# Altium schematic symbol library WE-TVSP.SchLib: 358 symbols (part 4 of 7)
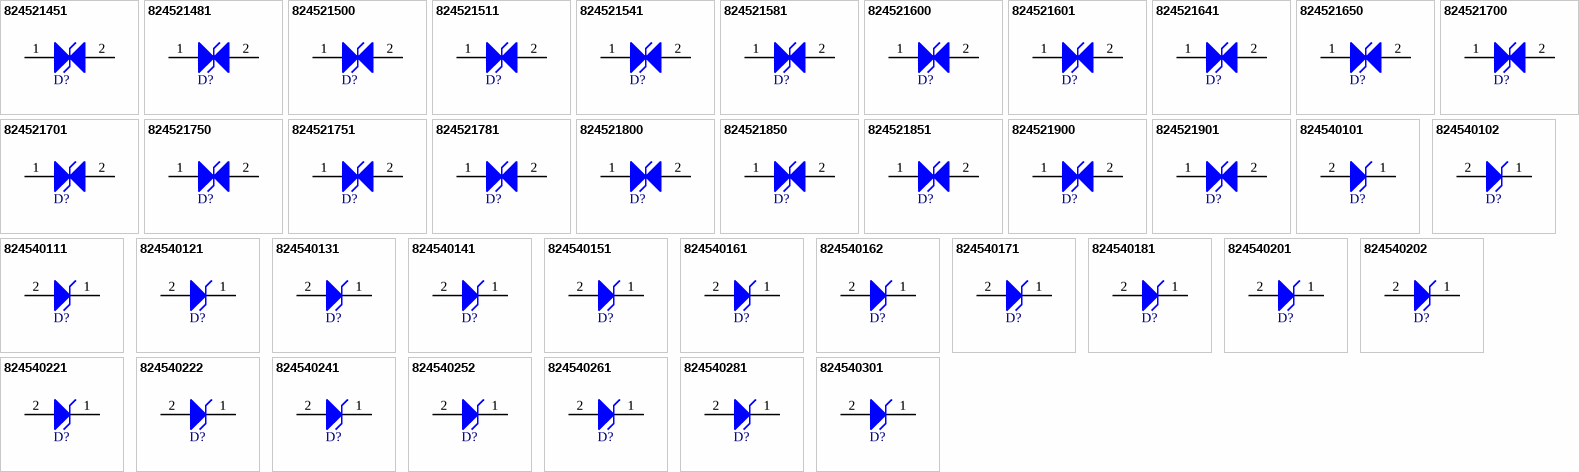
[diagram p11: symbols 824521451 to 824540301]

## 824521541
designator D?, comment 600W, 54VDC  (value not drawn)
WE-TVSP SMT Power TVS Diode, DO-214AA, Bidirectional, 600W, 54VDC; Manufacturer Part Number: 824521541; Manufacturer: Wurth Elektronik; Clamping Voltage: 87.1V; Operating Voltage (DC): 54V; (Reverse) Breakdown Voltage: 63.15V; (Reverse) Peak Pulse Current: 6.9A; ComponentLink1Description: Website Link; ComponentLink1URL: https://www.we-online.com/redexpert/article/824521541?ad; ComponentLink2Description: Datasheet Link; ComponentLink2URL: https://www.we-online.com/redexpert/spec/824521541?ad; Category: Surge Protection; Match Code: WE-TVSP; Mount: Surface Mount; Operating Temperature Max: 150°C; Operating Temperature Min: -65°C; Packaging: Tape and Reel; Case/Size Code: DO-214AA; Length: 4.32mm; Width: 3.62mm; Height: 2.4mm; Polarity: Bidirectional; Power Dissipation: 600W
footprint WE-TVSP_DO-214AA_Bidirectional
pins: 1, 2

## 824521581
designator D?, comment 600W, 58VDC  (value not drawn)
WE-TVSP SMT Power TVS Diode, DO-214AA, Bidirectional, 600W, 58VDC; Manufacturer Part Number: 824521581; Manufacturer: Wurth Elektronik; Clamping Voltage: 93.6V; Operating Voltage (DC): 58V; (Reverse) Breakdown Voltage: 67.8V; (Reverse) Peak Pulse Current: 6.5A; ComponentLink1Description: Website Link; ComponentLink1URL: https://www.we-online.com/redexpert/article/824521581?ad; ComponentLink2Description: Datasheet Link; ComponentLink2URL: https://www.we-online.com/redexpert/spec/824521581?ad; Category: Surge Protection; Match Code: WE-TVSP; Mount: Surface Mount; Operating Temperature Max: 150°C; Operating Temperature Min: -65°C; Packaging: Tape and Reel; Case/Size Code: DO-214AA; Length: 4.32mm; Width: 3.62mm; Height: 2.4mm; Polarity: Bidirectional; Power Dissipation: 600W
footprint WE-TVSP_DO-214AA_Bidirectional
pins: 1, 2

## 824521600
designator D?, comment 600W, 6VDC  (value not drawn)
WE-TVSP SMT Power TVS Diode, DO-214AA, Bidirectional, 600W, 6VDC; Manufacturer Part Number: 824521600; Manufacturer: Wurth Elektronik; Clamping Voltage: 10.3V; Operating Voltage (DC): 6V; (Reverse) Breakdown Voltage: 7.02V; (Reverse) Peak Pulse Current: 58.3A; ComponentLink1Description: Website Link; ComponentLink1URL: https://www.we-online.com/redexpert/article/824521600?ad; ComponentLink2Description: Datasheet Link; ComponentLink2URL: https://www.we-online.com/redexpert/spec/824521600?ad; Category: Surge Protection; Match Code: WE-TVSP; Mount: Surface Mount; Operating Temperature Max: 150°C; Operating Temperature Min: -65°C; Packaging: Tape and Reel; Case/Size Code: DO-214AA; Length: 4.32mm; Width: 3.62mm; Height: 2.4mm; Polarity: Bidirectional; Power Dissipation: 600W
footprint WE-TVSP_DO-214AA_Bidirectional
pins: 1, 2

## 824521601
designator D?, comment 600W, 60VDC  (value not drawn)
WE-TVSP SMT Power TVS Diode, DO-214AA, Bidirectional, 600W, 60VDC; Manufacturer Part Number: 824521601; Manufacturer: Wurth Elektronik; Clamping Voltage: 96.8V; Operating Voltage (DC): 60V; (Reverse) Breakdown Voltage: 70.2V; (Reverse) Peak Pulse Current: 6.2A; ComponentLink1Description: Website Link; ComponentLink1URL: https://www.we-online.com/redexpert/article/824521601?ad; ComponentLink2Description: Datasheet Link; ComponentLink2URL: https://www.we-online.com/redexpert/spec/824521601?ad; Category: Surge Protection; Match Code: WE-TVSP; Mount: Surface Mount; Operating Temperature Max: 150°C; Operating Temperature Min: -65°C; Packaging: Tape and Reel; Case/Size Code: DO-214AA; Length: 4.32mm; Width: 3.62mm; Height: 2.4mm; Polarity: Bidirectional; Power Dissipation: 600W
footprint WE-TVSP_DO-214AA_Bidirectional
pins: 1, 2

## 824521641
designator D?, comment 600W, 64VDC  (value not drawn)
WE-TVSP SMT Power TVS Diode, DO-214AA, Bidirectional, 600W, 64VDC; Manufacturer Part Number: 824521641; Manufacturer: Wurth Elektronik; Clamping Voltage: 103V; Operating Voltage (DC): 64V; (Reverse) Breakdown Voltage: 74.85V; (Reverse) Peak Pulse Current: 5.9A; ComponentLink1Description: Website Link; ComponentLink1URL: https://www.we-online.com/redexpert/article/824521641?ad; ComponentLink2Description: Datasheet Link; ComponentLink2URL: https://www.we-online.com/redexpert/spec/824521641?ad; Category: Surge Protection; Match Code: WE-TVSP; Mount: Surface Mount; Operating Temperature Max: 150°C; Operating Temperature Min: -65°C; Packaging: Tape and Reel; Case/Size Code: DO-214AA; Length: 4.32mm; Width: 3.62mm; Height: 2.4mm; Polarity: Bidirectional; Power Dissipation: 600W
footprint WE-TVSP_DO-214AA_Bidirectional
pins: 1, 2

## 824521650
designator D?, comment 600W, 6.5VDC  (value not drawn)
WE-TVSP SMT Power TVS Diode, DO-214AA, Bidirectional, 600W, 6.5VDC; Manufacturer Part Number: 824521650; Manufacturer: Wurth Elektronik; Clamping Voltage: 11.2V; Operating Voltage (DC): 6.5V; (Reverse) Breakdown Voltage: 7.6V; (Reverse) Peak Pulse Current: 53.6A; ComponentLink1Description: Website Link; ComponentLink1URL: https://www.we-online.com/redexpert/article/824521650?ad; ComponentLink2Description: Datasheet Link; ComponentLink2URL: https://www.we-online.com/redexpert/spec/824521650?ad; Category: Surge Protection; Match Code: WE-TVSP; Mount: Surface Mount; Operating Temperature Max: 150°C; Operating Temperature Min: -65°C; Packaging: Tape and Reel; Case/Size Code: DO-214AA; Length: 4.32mm; Width: 3.62mm; Height: 2.4mm; Polarity: Bidirectional; Power Dissipation: 600W
footprint WE-TVSP_DO-214AA_Bidirectional
pins: 1, 2

## 824521700
designator D?, comment 600W, 7VDC  (value not drawn)
WE-TVSP SMT Power TVS Diode, DO-214AA, Bidirectional, 600W, 7VDC; Manufacturer Part Number: 824521700; Manufacturer: Wurth Elektronik; Clamping Voltage: 12V; Operating Voltage (DC): 7V; (Reverse) Breakdown Voltage: 8.19V; (Reverse) Peak Pulse Current: 50A; ComponentLink1Description: Website Link; ComponentLink1URL: https://www.we-online.com/redexpert/article/824521700?ad; ComponentLink2Description: Datasheet Link; ComponentLink2URL: https://www.we-online.com/redexpert/spec/824521700?ad; Category: Surge Protection; Match Code: WE-TVSP; Mount: Surface Mount; Operating Temperature Max: 150°C; Operating Temperature Min: -65°C; Packaging: Tape and Reel; Case/Size Code: DO-214AA; Length: 4.32mm; Width: 3.62mm; Height: 2.4mm; Polarity: Bidirectional; Power Dissipation: 600W
footprint WE-TVSP_DO-214AA_Bidirectional
pins: 1, 2

## 824521701
designator D?, comment 600W, 70VDC  (value not drawn)
WE-TVSP SMT Power TVS Diode, DO-214AA, Bidirectional, 600W, 70VDC; Manufacturer Part Number: 824521701; Manufacturer: Wurth Elektronik; Clamping Voltage: 113V; Operating Voltage (DC): 70V; (Reverse) Breakdown Voltage: 81.9V; (Reverse) Peak Pulse Current: 5.3A; ComponentLink1Description: Website Link; ComponentLink1URL: https://www.we-online.com/redexpert/article/824521701?ad; ComponentLink2Description: Datasheet Link; ComponentLink2URL: https://www.we-online.com/redexpert/spec/824521701?ad; Category: Surge Protection; Match Code: WE-TVSP; Mount: Surface Mount; Operating Temperature Max: 150°C; Operating Temperature Min: -65°C; Packaging: Tape and Reel; Case/Size Code: DO-214AA; Length: 4.32mm; Width: 3.62mm; Height: 2.4mm; Polarity: Bidirectional; Power Dissipation: 600W
footprint WE-TVSP_DO-214AA_Bidirectional
pins: 1, 2

## 824521750
designator D?, comment 600W, 7.5VDC  (value not drawn)
WE-TVSP SMT Power TVS Diode, DO-214AA, Bidirectional, 600W, 7.5VDC; Manufacturer Part Number: 824521750; Manufacturer: Wurth Elektronik; Clamping Voltage: 12.9V; Operating Voltage (DC): 7.5V; (Reverse) Breakdown Voltage: 8.77V; (Reverse) Peak Pulse Current: 46.6A; ComponentLink1Description: Website Link; ComponentLink1URL: https://www.we-online.com/redexpert/article/824521750?ad; ComponentLink2Description: Datasheet Link; ComponentLink2URL: https://www.we-online.com/redexpert/spec/824521750?ad; Category: Surge Protection; Match Code: WE-TVSP; Mount: Surface Mount; Operating Temperature Max: 150°C; Operating Temperature Min: -65°C; Packaging: Tape and Reel; Case/Size Code: DO-214AA; Length: 4.32mm; Width: 3.62mm; Height: 2.4mm; Polarity: Bidirectional; Power Dissipation: 600W
footprint WE-TVSP_DO-214AA_Bidirectional
pins: 1, 2

## 824521751
designator D?, comment 600W, 75VDC  (value not drawn)
WE-TVSP SMT Power TVS Diode, DO-214AA, Bidirectional, 600W, 75VDC; Manufacturer Part Number: 824521751; Manufacturer: Wurth Elektronik; Clamping Voltage: 121V; Operating Voltage (DC): 75V; (Reverse) Breakdown Voltage: 87.7V; (Reverse) Peak Pulse Current: 5A; ComponentLink1Description: Website Link; ComponentLink1URL: https://www.we-online.com/redexpert/article/824521751?ad; ComponentLink2Description: Datasheet Link; ComponentLink2URL: https://www.we-online.com/redexpert/spec/824521751?ad; Category: Surge Protection; Match Code: WE-TVSP; Mount: Surface Mount; Operating Temperature Max: 150°C; Operating Temperature Min: -65°C; Packaging: Tape and Reel; Case/Size Code: DO-214AA; Length: 4.32mm; Width: 3.62mm; Height: 2.4mm; Polarity: Bidirectional; Power Dissipation: 600W
footprint WE-TVSP_DO-214AA_Bidirectional
pins: 1, 2

## 824521781
designator D?, comment 600W, 78VDC  (value not drawn)
WE-TVSP SMT Power TVS Diode, DO-214AA, Bidirectional, 600W, 78VDC; Manufacturer Part Number: 824521781; Manufacturer: Wurth Elektronik; Clamping Voltage: 126V; Operating Voltage (DC): 78V; (Reverse) Breakdown Voltage: 91.25V; (Reverse) Peak Pulse Current: 4.8A; ComponentLink1Description: Website Link; ComponentLink1URL: https://www.we-online.com/redexpert/article/824521781?ad; ComponentLink2Description: Datasheet Link; ComponentLink2URL: https://www.we-online.com/redexpert/spec/824521781?ad; Category: Surge Protection; Match Code: WE-TVSP; Mount: Surface Mount; Operating Temperature Max: 150°C; Operating Temperature Min: -65°C; Packaging: Tape and Reel; Case/Size Code: DO-214AA; Length: 4.32mm; Width: 3.62mm; Height: 2.4mm; Polarity: Bidirectional; Power Dissipation: 600W
footprint WE-TVSP_DO-214AA_Bidirectional
pins: 1, 2

## 824521800
designator D?, comment 600W, 8VDC  (value not drawn)
WE-TVSP SMT Power TVS Diode, DO-214AA, Bidirectional, 600W, 8VDC; Manufacturer Part Number: 824521800; Manufacturer: Wurth Elektronik; Clamping Voltage: 13.6V; Operating Voltage (DC): 8V; (Reverse) Breakdown Voltage: 9.36V; (Reverse) Peak Pulse Current: 44.2A; ComponentLink1Description: Website Link; ComponentLink1URL: https://www.we-online.com/redexpert/article/824521800?ad; ComponentLink2Description: Datasheet Link; ComponentLink2URL: https://www.we-online.com/redexpert/spec/824521800?ad; Category: Surge Protection; Match Code: WE-TVSP; Mount: Surface Mount; Operating Temperature Max: 150°C; Operating Temperature Min: -65°C; Packaging: Tape and Reel; Case/Size Code: DO-214AA; Length: 4.32mm; Width: 3.62mm; Height: 2.4mm; Polarity: Bidirectional; Power Dissipation: 600W
footprint WE-TVSP_DO-214AA_Bidirectional
pins: 1, 2

## 824521850
designator D?, comment 600W, 8.5VDC  (value not drawn)
WE-TVSP SMT Power TVS Diode, DO-214AA, Bidirectional, 600W, 8.5VDC; Manufacturer Part Number: 824521850; Manufacturer: Wurth Elektronik; Clamping Voltage: 14.4V; Operating Voltage (DC): 8.5V; (Reverse) Breakdown Voltage: 9.92V; (Reverse) Peak Pulse Current: 41.7A; ComponentLink1Description: Website Link; ComponentLink1URL: https://www.we-online.com/redexpert/article/824521850?ad; ComponentLink2Description: Datasheet Link; ComponentLink2URL: https://www.we-online.com/redexpert/spec/824521850?ad; Category: Surge Protection; Match Code: WE-TVSP; Mount: Surface Mount; Operating Temperature Max: 150°C; Operating Temperature Min: -65°C; Packaging: Tape and Reel; Case/Size Code: DO-214AA; Length: 4.32mm; Width: 3.62mm; Height: 2.4mm; Polarity: Bidirectional; Power Dissipation: 600W
footprint WE-TVSP_DO-214AA_Bidirectional
pins: 1, 2

## 824521851
designator D?, comment 600W, 85VDC  (value not drawn)
WE-TVSP SMT Power TVS Diode, DO-214AA, Bidirectional, 600W, 85VDC; Manufacturer Part Number: 824521851; Manufacturer: Wurth Elektronik; Clamping Voltage: 137V; Operating Voltage (DC): 85V; (Reverse) Breakdown Voltage: 99.2V; (Reverse) Peak Pulse Current: 4.4A; ComponentLink1Description: Website Link; ComponentLink1URL: https://www.we-online.com/redexpert/article/824521851?ad; ComponentLink2Description: Datasheet Link; ComponentLink2URL: https://www.we-online.com/redexpert/spec/824521851?ad; Category: Surge Protection; Match Code: WE-TVSP; Mount: Surface Mount; Operating Temperature Max: 150°C; Operating Temperature Min: -65°C; Packaging: Tape and Reel; Case/Size Code: DO-214AA; Length: 4.32mm; Width: 3.62mm; Height: 2.4mm; Polarity: Bidirectional; Power Dissipation: 600W
footprint WE-TVSP_DO-214AA_Bidirectional
pins: 1, 2

## 824521900
designator D?, comment 600W, 9VDC  (value not drawn)
WE-TVSP SMT Power TVS Diode, DO-214AA, Bidirectional, 600W, 9VDC; Manufacturer Part Number: 824521900; Manufacturer: Wurth Elektronik; Clamping Voltage: 15.4V; Operating Voltage (DC): 9V; (Reverse) Breakdown Voltage: 10.55V; (Reverse) Peak Pulse Current: 39A; ComponentLink1Description: Website Link; ComponentLink1URL: https://www.we-online.com/redexpert/article/824521900?ad; ComponentLink2Description: Datasheet Link; ComponentLink2URL: https://www.we-online.com/redexpert/spec/824521900?ad; Category: Surge Protection; Match Code: WE-TVSP; Mount: Surface Mount; Operating Temperature Max: 150°C; Operating Temperature Min: -65°C; Packaging: Tape and Reel; Case/Size Code: DO-214AA; Length: 4.32mm; Width: 3.62mm; Height: 2.4mm; Polarity: Bidirectional; Power Dissipation: 600W
footprint WE-TVSP_DO-214AA_Bidirectional
pins: 1, 2

## 824521901
designator D?, comment 600W, 90VDC  (value not drawn)
WE-TVSP SMT Power TVS Diode, DO-214AA, Bidirectional, 600W, 90VDC; Manufacturer Part Number: 824521901; Manufacturer: Wurth Elektronik; Clamping Voltage: 146V; Operating Voltage (DC): 90V; (Reverse) Breakdown Voltage: 105.5V; (Reverse) Peak Pulse Current: 4.1A; ComponentLink1Description: Website Link; ComponentLink1URL: https://www.we-online.com/redexpert/article/824521901?ad; ComponentLink2Description: Datasheet Link; ComponentLink2URL: https://www.we-online.com/redexpert/spec/824521901?ad; Category: Surge Protection; Match Code: WE-TVSP; Mount: Surface Mount; Operating Temperature Max: 150°C; Operating Temperature Min: -65°C; Packaging: Tape and Reel; Case/Size Code: DO-214AA; Length: 4.32mm; Width: 3.62mm; Height: 2.4mm; Polarity: Bidirectional; Power Dissipation: 600W
footprint WE-TVSP_DO-214AA_Bidirectional
pins: 1, 2

## 824540101
designator D?, comment 1500W, 10VDC  (value not drawn)
WE-TVSP SMT Power TVS Diode, DO-214AB, Unidirectional, 1500W, 10VDC; Manufacturer Part Number: 824540101; Manufacturer: Wurth Elektronik; Clamping Voltage: 17V; Operating Voltage (DC): 10V; (Reverse) Breakdown Voltage: 11.7V; (Reverse) Peak Pulse Current: 88.3A; ComponentLink1Description: Website Link; ComponentLink1URL: https://www.we-online.com/redexpert/article/824540101?ad; ComponentLink2Description: Datasheet Link; ComponentLink2URL: https://www.we-online.com/redexpert/spec/824540101?ad; Category: Surge Protection; Match Code: WE-TVSP; Mount: Surface Mount; Operating Temperature Max: 150°C; Operating Temperature Min: -65°C; Packaging: Tape and Reel; Case/Size Code: DO-214AB; Length: 6.86mm; Width: 5.9mm; Height: 2.5mm; Polarity: Unidirectional; Power Dissipation: 1500W
footprint WE-TVSP_DO-214AB_Unidirectional
pins: 1 K, 2 A

## 824540102
designator D?, comment 1500W, 100VDC  (value not drawn)
WE-TVSP SMT Power TVS Diode, DO-214AB, Unidirectional, 1500W, 100VDC; Manufacturer Part Number: 824540102; Manufacturer: Wurth Elektronik; Clamping Voltage: 162V; Operating Voltage (DC): 100V; (Reverse) Breakdown Voltage: 117V; (Reverse) Peak Pulse Current: 9.3A; ComponentLink1Description: Website Link; ComponentLink1URL: https://www.we-online.com/redexpert/article/824540102?ad; ComponentLink2Description: Datasheet Link; ComponentLink2URL: https://www.we-online.com/redexpert/spec/824540102?ad; Category: Surge Protection; Match Code: WE-TVSP; Mount: Surface Mount; Operating Temperature Max: 150°C; Operating Temperature Min: -65°C; Packaging: Tape and Reel; Case/Size Code: DO-214AB; Length: 6.86mm; Width: 5.9mm; Height: 2.5mm; Polarity: Unidirectional; Power Dissipation: 1500W
footprint WE-TVSP_DO-214AB_Unidirectional
pins: 1 K, 2 A

## 824540111
designator D?, comment 1500W, 11VDC  (value not drawn)
WE-TVSP SMT Power TVS Diode, DO-214AB, Unidirectional, 1500W, 11VDC; Manufacturer Part Number: 824540111; Manufacturer: Wurth Elektronik; Clamping Voltage: 18.2V; Operating Voltage (DC): 11V; (Reverse) Breakdown Voltage: 12.85V; (Reverse) Peak Pulse Current: 82.5A; ComponentLink1Description: Website Link; ComponentLink1URL: https://www.we-online.com/redexpert/article/824540111?ad; ComponentLink2Description: Datasheet Link; ComponentLink2URL: https://www.we-online.com/redexpert/spec/824540111?ad; Category: Surge Protection; Match Code: WE-TVSP; Mount: Surface Mount; Operating Temperature Max: 150°C; Operating Temperature Min: -65°C; Packaging: Tape and Reel; Case/Size Code: DO-214AB; Length: 6.86mm; Width: 5.9mm; Height: 2.5mm; Polarity: Unidirectional; Power Dissipation: 1500W
footprint WE-TVSP_DO-214AB_Unidirectional
pins: 1 K, 2 A

## 824540121
designator D?, comment 1500W, 12VDC  (value not drawn)
WE-TVSP SMT Power TVS Diode, DO-214AB, Unidirectional, 1500W, 12VDC; Manufacturer Part Number: 824540121; Manufacturer: Wurth Elektronik; Clamping Voltage: 19.9V; Operating Voltage (DC): 12V; (Reverse) Breakdown Voltage: 14V; (Reverse) Peak Pulse Current: 75.4A; ComponentLink1Description: Website Link; ComponentLink1URL: https://www.we-online.com/redexpert/article/824540121?ad; ComponentLink2Description: Datasheet Link; ComponentLink2URL: https://www.we-online.com/redexpert/spec/824540121?ad; Category: Surge Protection; Match Code: WE-TVSP; Mount: Surface Mount; Operating Temperature Max: 150°C; Operating Temperature Min: -65°C; Packaging: Tape and Reel; Case/Size Code: DO-214AB; Length: 6.86mm; Width: 5.9mm; Height: 2.5mm; Polarity: Unidirectional; Power Dissipation: 1500W
footprint WE-TVSP_DO-214AB_Unidirectional
pins: 1 K, 2 A

## 824540131
designator D?, comment 1500W, 13VDC  (value not drawn)
WE-TVSP SMT Power TVS Diode, DO-214AB, Unidirectional, 1500W, 13VDC; Manufacturer Part Number: 824540131; Manufacturer: Wurth Elektronik; Clamping Voltage: 21.5V; Operating Voltage (DC): 13V; (Reverse) Breakdown Voltage: 15.15V; (Reverse) Peak Pulse Current: 69.8A; ComponentLink1Description: Website Link; ComponentLink1URL: https://www.we-online.com/redexpert/article/824540131?ad; ComponentLink2Description: Datasheet Link; ComponentLink2URL: https://www.we-online.com/redexpert/spec/824540131?ad; Category: Surge Protection; Match Code: WE-TVSP; Mount: Surface Mount; Operating Temperature Max: 150°C; Operating Temperature Min: -65°C; Packaging: Tape and Reel; Case/Size Code: DO-214AB; Length: 6.86mm; Width: 5.9mm; Height: 2.5mm; Polarity: Unidirectional; Power Dissipation: 1500W
footprint WE-TVSP_DO-214AB_Unidirectional
pins: 1 K, 2 A

## 824540141
designator D?, comment 1500W, 14VDC  (value not drawn)
WE-TVSP SMT Power TVS Diode, DO-214AB, Unidirectional, 1500W, 14VDC; Manufacturer Part Number: 824540141; Manufacturer: Wurth Elektronik; Clamping Voltage: 23.2V; Operating Voltage (DC): 14V; (Reverse) Breakdown Voltage: 16.4V; (Reverse) Peak Pulse Current: 64.7A; ComponentLink1Description: Website Link; ComponentLink1URL: https://www.we-online.com/redexpert/article/824540141?ad; ComponentLink2Description: Datasheet Link; ComponentLink2URL: https://www.we-online.com/redexpert/spec/824540141?ad; Category: Surge Protection; Match Code: WE-TVSP; Mount: Surface Mount; Operating Temperature Max: 150°C; Operating Temperature Min: -65°C; Packaging: Tape and Reel; Case/Size Code: DO-214AB; Length: 6.86mm; Width: 5.9mm; Height: 2.5mm; Polarity: Unidirectional; Power Dissipation: 1500W
footprint WE-TVSP_DO-214AB_Unidirectional
pins: 1 K, 2 A

## 824540151
designator D?, comment 1500W, 15VDC  (value not drawn)
WE-TVSP SMT Power TVS Diode, DO-214AB, Unidirectional, 1500W, 15VDC; Manufacturer Part Number: 824540151; Manufacturer: Wurth Elektronik; Clamping Voltage: 24.4V; Operating Voltage (DC): 15V; (Reverse) Breakdown Voltage: 17.6V; (Reverse) Peak Pulse Current: 61.5A; ComponentLink1Description: Website Link; ComponentLink1URL: https://www.we-online.com/redexpert/article/824540151?ad; ComponentLink2Description: Datasheet Link; ComponentLink2URL: https://www.we-online.com/redexpert/spec/824540151?ad; Category: Surge Protection; Match Code: WE-TVSP; Mount: Surface Mount; Operating Temperature Max: 150°C; Operating Temperature Min: -65°C; Packaging: Tape and Reel; Case/Size Code: DO-214AB; Length: 6.86mm; Width: 5.9mm; Height: 2.5mm; Polarity: Unidirectional; Power Dissipation: 1500W
footprint WE-TVSP_DO-214AB_Unidirectional
pins: 1 K, 2 A

## 824540161
designator D?, comment 1500W, 16VDC  (value not drawn)
WE-TVSP SMT Power TVS Diode, DO-214AB, Unidirectional, 1500W, 16VDC; Manufacturer Part Number: 824540161; Manufacturer: Wurth Elektronik; Clamping Voltage: 26V; Operating Voltage (DC): 16V; (Reverse) Breakdown Voltage: 18.75V; (Reverse) Peak Pulse Current: 57.7A; ComponentLink1Description: Website Link; ComponentLink1URL: https://www.we-online.com/redexpert/article/824540161?ad; ComponentLink2Description: Datasheet Link; ComponentLink2URL: https://www.we-online.com/redexpert/spec/824540161?ad; Category: Surge Protection; Match Code: WE-TVSP; Mount: Surface Mount; Operating Temperature Max: 150°C; Operating Temperature Min: -65°C; Packaging: Tape and Reel; Case/Size Code: DO-214AB; Length: 6.86mm; Width: 5.9mm; Height: 2.5mm; Polarity: Unidirectional; Power Dissipation: 1500W
footprint WE-TVSP_DO-214AB_Unidirectional
pins: 1 K, 2 A

## 824540162
designator D?, comment 1500W, 160VDC  (value not drawn)
WE-TVSP SMT Power TVS Diode, DO-214AB, Unidirectional, 1500W, 160VDC; Manufacturer Part Number: 824540162; Manufacturer: Wurth Elektronik; Clamping Voltage: 259V; Operating Voltage (DC): 160V; (Reverse) Breakdown Voltage: 187.5V; (Reverse) Peak Pulse Current: 5.8A; ComponentLink1Description: Website Link; ComponentLink1URL: https://www.we-online.com/redexpert/article/824540162?ad; ComponentLink2Description: Datasheet Link; ComponentLink2URL: https://www.we-online.com/redexpert/spec/824540162?ad; Category: Surge Protection; Match Code: WE-TVSP; Mount: Surface Mount; Operating Temperature Max: 150°C; Operating Temperature Min: -65°C; Packaging: Tape and Reel; Case/Size Code: DO-214AB; Length: 6.86mm; Width: 5.9mm; Height: 2.5mm; Polarity: Unidirectional; Power Dissipation: 1500W
footprint WE-TVSP_DO-214AB_Unidirectional
pins: 1 K, 2 A

## 824540171
designator D?, comment 1500W, 17VDC  (value not drawn)
WE-TVSP SMT Power TVS Diode, DO-214AB, Unidirectional, 1500W, 17VDC; Manufacturer Part Number: 824540171; Manufacturer: Wurth Elektronik; Clamping Voltage: 27.6V; Operating Voltage (DC): 17V; (Reverse) Breakdown Voltage: 19.9V; (Reverse) Peak Pulse Current: 54.4A; ComponentLink1Description: Website Link; ComponentLink1URL: https://www.we-online.com/redexpert/article/824540171?ad; ComponentLink2Description: Datasheet Link; ComponentLink2URL: https://www.we-online.com/redexpert/spec/824540171?ad; Category: Surge Protection; Match Code: WE-TVSP; Mount: Surface Mount; Operating Temperature Max: 150°C; Operating Temperature Min: -65°C; Packaging: Tape and Reel; Case/Size Code: DO-214AB; Length: 6.86mm; Width: 5.9mm; Height: 2.5mm; Polarity: Unidirectional; Power Dissipation: 1500W
footprint WE-TVSP_DO-214AB_Unidirectional
pins: 1 K, 2 A

## 824540181
designator D?, comment 1500W, 18VDC  (value not drawn)
WE-TVSP SMT Power TVS Diode, DO-214AB, Unidirectional, 1500W, 18VDC; Manufacturer Part Number: 824540181; Manufacturer: Wurth Elektronik; Clamping Voltage: 29.2V; Operating Voltage (DC): 18V; (Reverse) Breakdown Voltage: 21.05V; (Reverse) Peak Pulse Current: 51.4A; ComponentLink1Description: Website Link; ComponentLink1URL: https://www.we-online.com/redexpert/article/824540181?ad; ComponentLink2Description: Datasheet Link; ComponentLink2URL: https://www.we-online.com/redexpert/spec/824540181?ad; Category: Surge Protection; Match Code: WE-TVSP; Mount: Surface Mount; Operating Temperature Max: 150°C; Operating Temperature Min: -65°C; Packaging: Tape and Reel; Case/Size Code: DO-214AB; Length: 6.86mm; Width: 5.9mm; Height: 2.5mm; Polarity: Unidirectional; Power Dissipation: 1500W
footprint WE-TVSP_DO-214AB_Unidirectional
pins: 1 K, 2 A

## 824540201
designator D?, comment 1500W, 20VDC  (value not drawn)
WE-TVSP SMT Power TVS Diode, DO-214AB, Unidirectional, 1500W, 20VDC; Manufacturer Part Number: 824540201; Manufacturer: Wurth Elektronik; Clamping Voltage: 32.4V; Operating Voltage (DC): 20V; (Reverse) Breakdown Voltage: 23.35V; (Reverse) Peak Pulse Current: 46.3A; ComponentLink1Description: Website Link; ComponentLink1URL: https://www.we-online.com/redexpert/article/824540201?ad; ComponentLink2Description: Datasheet Link; ComponentLink2URL: https://www.we-online.com/redexpert/spec/824540201?ad; Category: Surge Protection; Match Code: WE-TVSP; Mount: Surface Mount; Operating Temperature Max: 150°C; Operating Temperature Min: -65°C; Packaging: Tape and Reel; Case/Size Code: DO-214AB; Length: 6.86mm; Width: 5.9mm; Height: 2.5mm; Polarity: Unidirectional; Power Dissipation: 1500W
footprint WE-TVSP_DO-214AB_Unidirectional
pins: 1 K, 2 A

## 824540202
designator D?, comment 1500W, 200VDC  (value not drawn)
WE-TVSP SMT Power TVS Diode, DO-214AB, Unidirectional, 1500W, 200VDC; Manufacturer Part Number: 824540202; Manufacturer: Wurth Elektronik; Clamping Voltage: 324V; Operating Voltage (DC): 200V; (Reverse) Breakdown Voltage: 235.5V; (Reverse) Peak Pulse Current: 4.6A; ComponentLink1Description: Website Link; ComponentLink1URL: https://www.we-online.com/redexpert/article/824540202?ad; ComponentLink2Description: Datasheet Link; ComponentLink2URL: https://www.we-online.com/redexpert/spec/824540202?ad; Category: Surge Protection; Match Code: WE-TVSP; Mount: Surface Mount; Operating Temperature Max: 150°C; Operating Temperature Min: -65°C; Packaging: Tape and Reel; Case/Size Code: DO-214AB; Length: 6.86mm; Width: 5.9mm; Height: 2.5mm; Polarity: Unidirectional; Power Dissipation: 1500W
footprint WE-TVSP_DO-214AB_Unidirectional
pins: 1 K, 2 A

## 824540221
designator D?, comment 1500W, 22VDC  (value not drawn)
WE-TVSP SMT Power TVS Diode, DO-214AB, Unidirectional, 1500W, 22VDC; Manufacturer Part Number: 824540221; Manufacturer: Wurth Elektronik; Clamping Voltage: 35.5V; Operating Voltage (DC): 22V; (Reverse) Breakdown Voltage: 25.65V; (Reverse) Peak Pulse Current: 42.3A; ComponentLink1Description: Website Link; ComponentLink1URL: https://www.we-online.com/redexpert/article/824540221?ad; ComponentLink2Description: Datasheet Link; ComponentLink2URL: https://www.we-online.com/redexpert/spec/824540221?ad; Category: Surge Protection; Match Code: WE-TVSP; Mount: Surface Mount; Operating Temperature Max: 150°C; Operating Temperature Min: -65°C; Packaging: Tape and Reel; Case/Size Code: DO-214AB; Length: 6.86mm; Width: 5.9mm; Height: 2.5mm; Polarity: Unidirectional; Power Dissipation: 1500W
footprint WE-TVSP_DO-214AB_Unidirectional
pins: 1 K, 2 A

## 824540222
designator D?, comment 1500W, 220VDC  (value not drawn)
WE-TVSP SMT Power TVS Diode, DO-214AB, Unidirectional, 1500W, 220VDC; Manufacturer Part Number: 824540222; Manufacturer: Wurth Elektronik; Clamping Voltage: 356V; Operating Voltage (DC): 220V; (Reverse) Breakdown Voltage: 259V; (Reverse) Peak Pulse Current: 4.2A; ComponentLink1Description: Website Link; ComponentLink1URL: https://www.we-online.com/redexpert/article/824540222?ad; ComponentLink2Description: Datasheet Link; ComponentLink2URL: https://www.we-online.com/redexpert/spec/824540222?ad; Category: Surge Protection; Match Code: WE-TVSP; Mount: Surface Mount; Operating Temperature Max: 150°C; Operating Temperature Min: -65°C; Packaging: Tape and Reel; Case/Size Code: DO-214AB; Length: 6.86mm; Width: 5.9mm; Height: 2.5mm; Polarity: Unidirectional; Power Dissipation: 1500W
footprint WE-TVSP_DO-214AB_Unidirectional
pins: 1 K, 2 A

## 824540241
designator D?, comment 1500W, 24VDC  (value not drawn)
WE-TVSP SMT Power TVS Diode, DO-214AB, Unidirectional, 1500W, 24VDC; Manufacturer Part Number: 824540241; Manufacturer: Wurth Elektronik; Clamping Voltage: 38.9V; Operating Voltage (DC): 24V; (Reverse) Breakdown Voltage: 28.1V; (Reverse) Peak Pulse Current: 38.6A; ComponentLink1Description: Website Link; ComponentLink1URL: https://www.we-online.com/redexpert/article/824540241?ad; ComponentLink2Description: Datasheet Link; ComponentLink2URL: https://www.we-online.com/redexpert/spec/824540241?ad; Category: Surge Protection; Match Code: WE-TVSP; Mount: Surface Mount; Operating Temperature Max: 150°C; Operating Temperature Min: -65°C; Packaging: Tape and Reel; Case/Size Code: DO-214AB; Length: 6.86mm; Width: 5.9mm; Height: 2.5mm; Polarity: Unidirectional; Power Dissipation: 1500W
footprint WE-TVSP_DO-214AB_Unidirectional
pins: 1 K, 2 A

## 824540252
designator D?, comment 1500W, 250VDC  (value not drawn)
WE-TVSP SMT Power TVS Diode, DO-214AB, Unidirectional, 1500W, 250VDC; Manufacturer Part Number: 824540252; Manufacturer: Wurth Elektronik; Clamping Voltage: 405V; Operating Voltage (DC): 250V; (Reverse) Breakdown Voltage: 294V; (Reverse) Peak Pulse Current: 3.7A; ComponentLink1Description: Website Link; ComponentLink1URL: https://www.we-online.com/redexpert/article/824540252?ad; ComponentLink2Description: Datasheet Link; ComponentLink2URL: https://www.we-online.com/redexpert/spec/824540252?ad; Category: Surge Protection; Match Code: WE-TVSP; Mount: Surface Mount; Operating Temperature Max: 150°C; Operating Temperature Min: -65°C; Packaging: Tape and Reel; Case/Size Code: DO-214AB; Length: 6.86mm; Width: 5.9mm; Height: 2.5mm; Polarity: Unidirectional; Power Dissipation: 1500W
footprint WE-TVSP_DO-214AB_Unidirectional
pins: 1 K, 2 A

## 824540261
designator D?, comment 1500W, 26VDC  (value not drawn)
WE-TVSP SMT Power TVS Diode, DO-214AB, Unidirectional, 1500W, 26VDC; Manufacturer Part Number: 824540261; Manufacturer: Wurth Elektronik; Clamping Voltage: 42.1V; Operating Voltage (DC): 26V; (Reverse) Breakdown Voltage: 30.4V; (Reverse) Peak Pulse Current: 35.7A; ComponentLink1Description: Website Link; ComponentLink1URL: https://www.we-online.com/redexpert/article/824540261?ad; ComponentLink2Description: Datasheet Link; ComponentLink2URL: https://www.we-online.com/redexpert/spec/824540261?ad; Category: Surge Protection; Match Code: WE-TVSP; Mount: Surface Mount; Operating Temperature Max: 150°C; Operating Temperature Min: -65°C; Packaging: Tape and Reel; Case/Size Code: DO-214AB; Length: 6.86mm; Width: 5.9mm; Height: 2.5mm; Polarity: Unidirectional; Power Dissipation: 1500W
footprint WE-TVSP_DO-214AB_Unidirectional
pins: 1 K, 2 A

## 824540281
designator D?, comment 1500W, 28VDC  (value not drawn)
WE-TVSP SMT Power TVS Diode, DO-214AB, Unidirectional, 1500W, 28VDC; Manufacturer Part Number: 824540281; Manufacturer: Wurth Elektronik; Clamping Voltage: 45.4V; Operating Voltage (DC): 28V; (Reverse) Breakdown Voltage: 32.75V; (Reverse) Peak Pulse Current: 33.1A; ComponentLink1Description: Website Link; ComponentLink1URL: https://www.we-online.com/redexpert/article/824540281?ad; ComponentLink2Description: Datasheet Link; ComponentLink2URL: https://www.we-online.com/redexpert/spec/824540281?ad; Category: Surge Protection; Match Code: WE-TVSP; Mount: Surface Mount; Operating Temperature Max: 150°C; Operating Temperature Min: -65°C; Packaging: Tape and Reel; Case/Size Code: DO-214AB; Length: 6.86mm; Width: 5.9mm; Height: 2.5mm; Polarity: Unidirectional; Power Dissipation: 1500W
footprint WE-TVSP_DO-214AB_Unidirectional
pins: 1 K, 2 A

## 824540301
designator D?, comment 1500W, 30VDC  (value not drawn)
WE-TVSP SMT Power TVS Diode, DO-214AB, Unidirectional, 1500W, 30VDC; Manufacturer Part Number: 824540301; Manufacturer: Wurth Elektronik; Clamping Voltage: 48.4V; Operating Voltage (DC): 30V; (Reverse) Breakdown Voltage: 35.05V; (Reverse) Peak Pulse Current: 31A; ComponentLink1Description: Website Link; ComponentLink1URL: https://www.we-online.com/redexpert/article/824540301?ad; ComponentLink2Description: Datasheet Link; ComponentLink2URL: https://www.we-online.com/redexpert/spec/824540301?ad; Category: Surge Protection; Match Code: WE-TVSP; Mount: Surface Mount; Operating Temperature Max: 150°C; Operating Temperature Min: -65°C; Packaging: Tape and Reel; Case/Size Code: DO-214AB; Length: 6.86mm; Width: 5.9mm; Height: 2.5mm; Polarity: Unidirectional; Power Dissipation: 1500W
footprint WE-TVSP_DO-214AB_Unidirectional
pins: 1 K, 2 A

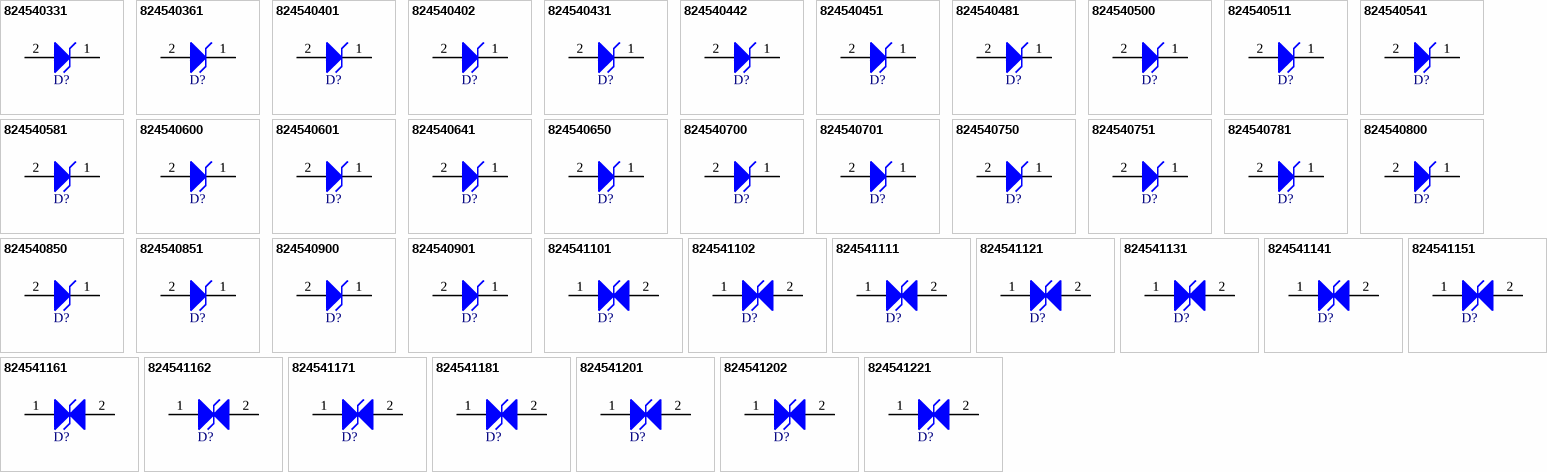
[diagram p5: symbols 824540331 to 824541221]

## 824540331
designator D?, comment 1500W, 33VDC  (value not drawn)
WE-TVSP SMT Power TVS Diode, DO-214AB, Unidirectional, 1500W, 33VDC; Manufacturer Part Number: 824540331; Manufacturer: Wurth Elektronik; Clamping Voltage: 53.3V; Operating Voltage (DC): 33V; (Reverse) Breakdown Voltage: 38.65V; (Reverse) Peak Pulse Current: 28.2A; ComponentLink1Description: Website Link; ComponentLink1URL: https://www.we-online.com/redexpert/article/824540331?ad; ComponentLink2Description: Datasheet Link; ComponentLink2URL: https://www.we-online.com/redexpert/spec/824540331?ad; Category: Surge Protection; Match Code: WE-TVSP; Mount: Surface Mount; Operating Temperature Max: 150°C; Operating Temperature Min: -65°C; Packaging: Tape and Reel; Case/Size Code: DO-214AB; Length: 6.86mm; Width: 5.9mm; Height: 2.5mm; Polarity: Unidirectional; Power Dissipation: 1500W
footprint WE-TVSP_DO-214AB_Unidirectional
pins: 1 K, 2 A

## 824540361
designator D?, comment 1500W, 36VDC  (value not drawn)
WE-TVSP SMT Power TVS Diode, DO-214AB, Unidirectional, 1500W, 36VDC; Manufacturer Part Number: 824540361; Manufacturer: Wurth Elektronik; Clamping Voltage: 58.1V; Operating Voltage (DC): 36V; (Reverse) Breakdown Voltage: 42.1V; (Reverse) Peak Pulse Current: 25.9A; ComponentLink1Description: Website Link; ComponentLink1URL: https://www.we-online.com/redexpert/article/824540361?ad; ComponentLink2Description: Datasheet Link; ComponentLink2URL: https://www.we-online.com/redexpert/spec/824540361?ad; Category: Surge Protection; Match Code: WE-TVSP; Mount: Surface Mount; Operating Temperature Max: 150°C; Operating Temperature Min: -65°C; Packaging: Tape and Reel; Case/Size Code: DO-214AB; Length: 6.86mm; Width: 5.9mm; Height: 2.5mm; Polarity: Unidirectional; Power Dissipation: 1500W
footprint WE-TVSP_DO-214AB_Unidirectional
pins: 1 K, 2 A

## 824540401
designator D?, comment 1500W, 40VDC  (value not drawn)
WE-TVSP SMT Power TVS Diode, DO-214AB, Unidirectional, 1500W, 40VDC; Manufacturer Part Number: 824540401; Manufacturer: Wurth Elektronik; Clamping Voltage: 64.5V; Operating Voltage (DC): 40V; (Reverse) Breakdown Voltage: 46.75V; (Reverse) Peak Pulse Current: 23.3A; ComponentLink1Description: Website Link; ComponentLink1URL: https://www.we-online.com/redexpert/article/824540401?ad; ComponentLink2Description: Datasheet Link; ComponentLink2URL: https://www.we-online.com/redexpert/spec/824540401?ad; Category: Surge Protection; Match Code: WE-TVSP; Mount: Surface Mount; Operating Temperature Max: 150°C; Operating Temperature Min: -65°C; Packaging: Tape and Reel; Case/Size Code: DO-214AB; Length: 6.86mm; Width: 5.9mm; Height: 2.5mm; Polarity: Unidirectional; Power Dissipation: 1500W
footprint WE-TVSP_DO-214AB_Unidirectional
pins: 1 K, 2 A

## 824540402
designator D?, comment 1500W, 400VDC  (value not drawn)
WE-TVSP SMT Power TVS Diode, DO-214AB, Unidirectional, 1500W, 400VDC; Manufacturer Part Number: 824540402; Manufacturer: Wurth Elektronik; Clamping Voltage: 648V; Operating Voltage (DC): 400V; (Reverse) Breakdown Voltage: 470.5V; (Reverse) Peak Pulse Current: 2.3A; ComponentLink1Description: Website Link; ComponentLink1URL: https://www.we-online.com/redexpert/article/824540402?ad; ComponentLink2Description: Datasheet Link; ComponentLink2URL: https://www.we-online.com/redexpert/spec/824540402?ad; Category: Surge Protection; Match Code: WE-TVSP; Mount: Surface Mount; Operating Temperature Max: 150°C; Operating Temperature Min: -65°C; Packaging: Tape and Reel; Case/Size Code: DO-214AB; Length: 6.86mm; Width: 5.9mm; Height: 2.5mm; Polarity: Unidirectional; Power Dissipation: 1500W
footprint WE-TVSP_DO-214AB_Unidirectional
pins: 1 K, 2 A

## 824540431
designator D?, comment 1500W, 43VDC  (value not drawn)
WE-TVSP SMT Power TVS Diode, DO-214AB, Unidirectional, 1500W, 43VDC; Manufacturer Part Number: 824540431; Manufacturer: Wurth Elektronik; Clamping Voltage: 69.4V; Operating Voltage (DC): 43V; (Reverse) Breakdown Voltage: 50.3V; (Reverse) Peak Pulse Current: 21.7A; ComponentLink1Description: Website Link; ComponentLink1URL: https://www.we-online.com/redexpert/article/824540431?ad; ComponentLink2Description: Datasheet Link; ComponentLink2URL: https://www.we-online.com/redexpert/spec/824540431?ad; Category: Surge Protection; Match Code: WE-TVSP; Mount: Surface Mount; Operating Temperature Max: 150°C; Operating Temperature Min: -65°C; Packaging: Tape and Reel; Case/Size Code: DO-214AB; Length: 6.86mm; Width: 5.9mm; Height: 2.5mm; Polarity: Unidirectional; Power Dissipation: 1500W
footprint WE-TVSP_DO-214AB_Unidirectional
pins: 1 K, 2 A

## 824540442
designator D?, comment 1500W, 440VDC  (value not drawn)
WE-TVSP SMT Power TVS Diode, DO-214AB, Unidirectional, 1500W, 440VDC; Manufacturer Part Number: 824540442; Manufacturer: Wurth Elektronik; Clamping Voltage: 713V; Operating Voltage (DC): 440V; (Reverse) Breakdown Voltage: 517.5V; (Reverse) Peak Pulse Current: 2.1A; ComponentLink1Description: Website Link; ComponentLink1URL: https://www.we-online.com/redexpert/article/824540442?ad; ComponentLink2Description: Datasheet Link; ComponentLink2URL: https://www.we-online.com/redexpert/spec/824540442?ad; Category: Surge Protection; Match Code: WE-TVSP; Mount: Surface Mount; Operating Temperature Max: 150°C; Operating Temperature Min: -65°C; Packaging: Tape and Reel; Case/Size Code: DO-214AB; Length: 6.86mm; Width: 5.9mm; Height: 2.5mm; Polarity: Unidirectional; Power Dissipation: 1500W
footprint WE-TVSP_DO-214AB_Unidirectional
pins: 1 K, 2 A

## 824540451
designator D?, comment 1500W, 45VDC  (value not drawn)
WE-TVSP SMT Power TVS Diode, DO-214AB, Unidirectional, 1500W, 45VDC; Manufacturer Part Number: 824540451; Manufacturer: Wurth Elektronik; Clamping Voltage: 72.7V; Operating Voltage (DC): 45V; (Reverse) Breakdown Voltage: 52.65V; (Reverse) Peak Pulse Current: 20.6A; ComponentLink1Description: Website Link; ComponentLink1URL: https://www.we-online.com/redexpert/article/824540451?ad; ComponentLink2Description: Datasheet Link; ComponentLink2URL: https://www.we-online.com/redexpert/spec/824540451?ad; Category: Surge Protection; Match Code: WE-TVSP; Mount: Surface Mount; Operating Temperature Max: 150°C; Operating Temperature Min: -65°C; Packaging: Tape and Reel; Case/Size Code: DO-214AB; Length: 6.86mm; Width: 5.9mm; Height: 2.5mm; Polarity: Unidirectional; Power Dissipation: 1500W
footprint WE-TVSP_DO-214AB_Unidirectional
pins: 1 K, 2 A

## 824540481
designator D?, comment 1500W, 48VDC  (value not drawn)
WE-TVSP SMT Power TVS Diode, DO-214AB, Unidirectional, 1500W, 48VDC; Manufacturer Part Number: 824540481; Manufacturer: Wurth Elektronik; Clamping Voltage: 77.4V; Operating Voltage (DC): 48V; (Reverse) Breakdown Voltage: 56.1V; (Reverse) Peak Pulse Current: 19.4A; ComponentLink1Description: Website Link; ComponentLink1URL: https://www.we-online.com/redexpert/article/824540481?ad; ComponentLink2Description: Datasheet Link; ComponentLink2URL: https://www.we-online.com/redexpert/spec/824540481?ad; Category: Surge Protection; Match Code: WE-TVSP; Mount: Surface Mount; Operating Temperature Max: 150°C; Operating Temperature Min: -65°C; Packaging: Tape and Reel; Case/Size Code: DO-214AB; Length: 6.86mm; Width: 5.9mm; Height: 2.5mm; Polarity: Unidirectional; Power Dissipation: 1500W
footprint WE-TVSP_DO-214AB_Unidirectional
pins: 1 K, 2 A

## 824540500
designator D?, comment 1500W, 5VDC  (value not drawn)
WE-TVSP SMT Power TVS Diode, DO-214AB, Unidirectional, 1500W, 5VDC; Manufacturer Part Number: 824540500; Manufacturer: Wurth Elektronik; Clamping Voltage: 9.2V; Operating Voltage (DC): 5V; (Reverse) Breakdown Voltage: 6.7V; (Reverse) Peak Pulse Current: 163A; ComponentLink1Description: Website Link; ComponentLink1URL: https://www.we-online.com/redexpert/article/824540500?ad; ComponentLink2Description: Datasheet Link; ComponentLink2URL: https://www.we-online.com/redexpert/spec/824540500?ad; Category: Surge Protection; Match Code: WE-TVSP; Mount: Surface Mount; Operating Temperature Max: 150°C; Operating Temperature Min: -65°C; Packaging: Tape and Reel; Case/Size Code: DO-214AB; Length: 6.86mm; Width: 5.9mm; Height: 2.5mm; Polarity: Unidirectional; Power Dissipation: 1500W
footprint WE-TVSP_DO-214AB_Unidirectional
pins: 1 K, 2 A

## 824540511
designator D?, comment 1500W, 51VDC  (value not drawn)
WE-TVSP SMT Power TVS Diode, DO-214AB, Unidirectional, 1500W, 51VDC; Manufacturer Part Number: 824540511; Manufacturer: Wurth Elektronik; Clamping Voltage: 82.4V; Operating Voltage (DC): 51V; (Reverse) Breakdown Voltage: 59.7V; (Reverse) Peak Pulse Current: 18.2A; ComponentLink1Description: Website Link; ComponentLink1URL: https://www.we-online.com/redexpert/article/824540511?ad; ComponentLink2Description: Datasheet Link; ComponentLink2URL: https://www.we-online.com/redexpert/spec/824540511?ad; Category: Surge Protection; Match Code: WE-TVSP; Mount: Surface Mount; Operating Temperature Max: 150°C; Operating Temperature Min: -65°C; Packaging: Tape and Reel; Case/Size Code: DO-214AB; Length: 6.86mm; Width: 5.9mm; Height: 2.5mm; Polarity: Unidirectional; Power Dissipation: 1500W
footprint WE-TVSP_DO-214AB_Unidirectional
pins: 1 K, 2 A

## 824540541
designator D?, comment 1500W, 54VDC  (value not drawn)
WE-TVSP SMT Power TVS Diode, DO-214AB, Unidirectional, 1500W, 54VDC; Manufacturer Part Number: 824540541; Manufacturer: Wurth Elektronik; Clamping Voltage: 87.1V; Operating Voltage (DC): 54V; (Reverse) Breakdown Voltage: 63.15V; (Reverse) Peak Pulse Current: 17.3A; ComponentLink1Description: Website Link; ComponentLink1URL: https://www.we-online.com/redexpert/article/824540541?ad; ComponentLink2Description: Datasheet Link; ComponentLink2URL: https://www.we-online.com/redexpert/spec/824540541?ad; Category: Surge Protection; Match Code: WE-TVSP; Mount: Surface Mount; Operating Temperature Max: 150°C; Operating Temperature Min: -65°C; Packaging: Tape and Reel; Case/Size Code: DO-214AB; Length: 6.86mm; Width: 5.9mm; Height: 2.5mm; Polarity: Unidirectional; Power Dissipation: 1500W
footprint WE-TVSP_DO-214AB_Unidirectional
pins: 1 K, 2 A

## 824540581
designator D?, comment 1500W, 58VDC  (value not drawn)
WE-TVSP SMT Power TVS Diode, DO-214AB, Unidirectional, 1500W, 58VDC; Manufacturer Part Number: 824540581; Manufacturer: Wurth Elektronik; Clamping Voltage: 93.6V; Operating Voltage (DC): 58V; (Reverse) Breakdown Voltage: 67.8V; (Reverse) Peak Pulse Current: 16.1A; ComponentLink1Description: Website Link; ComponentLink1URL: https://www.we-online.com/redexpert/article/824540581?ad; ComponentLink2Description: Datasheet Link; ComponentLink2URL: https://www.we-online.com/redexpert/spec/824540581?ad; Category: Surge Protection; Match Code: WE-TVSP; Mount: Surface Mount; Operating Temperature Max: 150°C; Operating Temperature Min: -65°C; Packaging: Tape and Reel; Case/Size Code: DO-214AB; Length: 6.86mm; Width: 5.9mm; Height: 2.5mm; Polarity: Unidirectional; Power Dissipation: 1500W
footprint WE-TVSP_DO-214AB_Unidirectional
pins: 1 K, 2 A

## 824540600
designator D?, comment 1500W, 6VDC  (value not drawn)
WE-TVSP SMT Power TVS Diode, DO-214AB, Unidirectional, 1500W, 6VDC; Manufacturer Part Number: 824540600; Manufacturer: Wurth Elektronik; Clamping Voltage: 10.3V; Operating Voltage (DC): 6V; (Reverse) Breakdown Voltage: 7.02V; (Reverse) Peak Pulse Current: 145.7A; ComponentLink1Description: Website Link; ComponentLink1URL: https://www.we-online.com/redexpert/article/824540600?ad; ComponentLink2Description: Datasheet Link; ComponentLink2URL: https://www.we-online.com/redexpert/spec/824540600?ad; Category: Surge Protection; Match Code: WE-TVSP; Mount: Surface Mount; Operating Temperature Max: 150°C; Operating Temperature Min: -65°C; Packaging: Tape and Reel; Case/Size Code: DO-214AB; Length: 6.86mm; Width: 5.9mm; Height: 2.5mm; Polarity: Unidirectional; Power Dissipation: 1500W
footprint WE-TVSP_DO-214AB_Unidirectional
pins: 1 K, 2 A

## 824540601
designator D?, comment 1500W, 60VDC  (value not drawn)
WE-TVSP SMT Power TVS Diode, DO-214AB, Unidirectional, 1500W, 60VDC; Manufacturer Part Number: 824540601; Manufacturer: Wurth Elektronik; Clamping Voltage: 96.8V; Operating Voltage (DC): 60V; (Reverse) Breakdown Voltage: 70.2V; (Reverse) Peak Pulse Current: 15.5A; ComponentLink1Description: Website Link; ComponentLink1URL: https://www.we-online.com/redexpert/article/824540601?ad; ComponentLink2Description: Datasheet Link; ComponentLink2URL: https://www.we-online.com/redexpert/spec/824540601?ad; Category: Surge Protection; Match Code: WE-TVSP; Mount: Surface Mount; Operating Temperature Max: 150°C; Operating Temperature Min: -65°C; Packaging: Tape and Reel; Case/Size Code: DO-214AB; Length: 6.86mm; Width: 5.9mm; Height: 2.5mm; Polarity: Unidirectional; Power Dissipation: 1500W
footprint WE-TVSP_DO-214AB_Unidirectional
pins: 1 K, 2 A

## 824540641
designator D?, comment 1500W, 64VDC  (value not drawn)
WE-TVSP SMT Power TVS Diode, DO-214AB, Unidirectional, 1500W, 64VDC; Manufacturer Part Number: 824540641; Manufacturer: Wurth Elektronik; Clamping Voltage: 103V; Operating Voltage (DC): 64V; (Reverse) Breakdown Voltage: 74.85V; (Reverse) Peak Pulse Current: 14.6A; ComponentLink1Description: Website Link; ComponentLink1URL: https://www.we-online.com/redexpert/article/824540641?ad; ComponentLink2Description: Datasheet Link; ComponentLink2URL: https://www.we-online.com/redexpert/spec/824540641?ad; Category: Surge Protection; Match Code: WE-TVSP; Mount: Surface Mount; Operating Temperature Max: 150°C; Operating Temperature Min: -65°C; Packaging: Tape and Reel; Case/Size Code: DO-214AB; Length: 6.86mm; Width: 5.9mm; Height: 2.5mm; Polarity: Unidirectional; Power Dissipation: 1500W
footprint WE-TVSP_DO-214AB_Unidirectional
pins: 1 K, 2 A

## 824540650
designator D?, comment 1500W, 6.5VDC  (value not drawn)
WE-TVSP SMT Power TVS Diode, DO-214AB, Unidirectional, 1500W, 6.5VDC; Manufacturer Part Number: 824540650; Manufacturer: Wurth Elektronik; Clamping Voltage: 11.2V; Operating Voltage (DC): 6.5V; (Reverse) Breakdown Voltage: 7.6V; (Reverse) Peak Pulse Current: 134A; ComponentLink1Description: Website Link; ComponentLink1URL: https://www.we-online.com/redexpert/article/824540650?ad; ComponentLink2Description: Datasheet Link; ComponentLink2URL: https://www.we-online.com/redexpert/spec/824540650?ad; Category: Surge Protection; Match Code: WE-TVSP; Mount: Surface Mount; Operating Temperature Max: 150°C; Operating Temperature Min: -65°C; Packaging: Tape and Reel; Case/Size Code: DO-214AB; Length: 6.86mm; Width: 5.9mm; Height: 2.5mm; Polarity: Unidirectional; Power Dissipation: 1500W
footprint WE-TVSP_DO-214AB_Unidirectional
pins: 1 K, 2 A

## 824540700
designator D?, comment 1500W, 7VDC  (value not drawn)
WE-TVSP SMT Power TVS Diode, DO-214AB, Unidirectional, 1500W, 7VDC; Manufacturer Part Number: 824540700; Manufacturer: Wurth Elektronik; Clamping Voltage: 12V; Operating Voltage (DC): 7V; (Reverse) Breakdown Voltage: 8.19V; (Reverse) Peak Pulse Current: 125A; ComponentLink1Description: Website Link; ComponentLink1URL: https://www.we-online.com/redexpert/article/824540700?ad; ComponentLink2Description: Datasheet Link; ComponentLink2URL: https://www.we-online.com/redexpert/spec/824540700?ad; Category: Surge Protection; Match Code: WE-TVSP; Mount: Surface Mount; Operating Temperature Max: 150°C; Operating Temperature Min: -65°C; Packaging: Tape and Reel; Case/Size Code: DO-214AB; Length: 6.86mm; Width: 5.9mm; Height: 2.5mm; Polarity: Unidirectional; Power Dissipation: 1500W
footprint WE-TVSP_DO-214AB_Unidirectional
pins: 1 K, 2 A

## 824540701
designator D?, comment 1500W, 70VDC  (value not drawn)
WE-TVSP SMT Power TVS Diode, DO-214AB, Unidirectional, 1500W, 70VDC; Manufacturer Part Number: 824540701; Manufacturer: Wurth Elektronik; Clamping Voltage: 113V; Operating Voltage (DC): 70V; (Reverse) Breakdown Voltage: 81.9V; (Reverse) Peak Pulse Current: 13.3A; ComponentLink1Description: Website Link; ComponentLink1URL: https://www.we-online.com/redexpert/article/824540701?ad; ComponentLink2Description: Datasheet Link; ComponentLink2URL: https://www.we-online.com/redexpert/spec/824540701?ad; Category: Surge Protection; Match Code: WE-TVSP; Mount: Surface Mount; Operating Temperature Max: 150°C; Operating Temperature Min: -65°C; Packaging: Tape and Reel; Case/Size Code: DO-214AB; Length: 6.86mm; Width: 5.9mm; Height: 2.5mm; Polarity: Unidirectional; Power Dissipation: 1500W
footprint WE-TVSP_DO-214AB_Unidirectional
pins: 1 K, 2 A